# EAGLE library part 557563-1 (library matt con-amp)
AMP connector
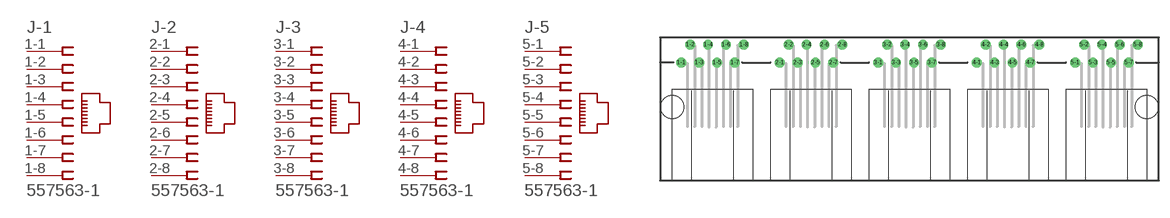
[diagram p62: symbol with the pads of 557563-1; footprint 557563-1]

Designator prefix J; gates -1=JACK8 -2=JACK8 -3=JACK8 -4=JACK8 -5=JACK8

## 557563-1  [557563-1]
1-1  -1:1  pas
1-2  -1:2  pas
1-3  -1:3  pas
1-4  -1:4  pas
1-5  -1:5  pas
1-6  -1:6  pas
1-7  -1:7  pas
1-8  -1:8  pas
2-1  -2:1  pas
2-2  -2:2  pas
2-3  -2:3  pas
2-4  -2:4  pas
2-5  -2:5  pas
2-6  -2:6  pas
2-7  -2:7  pas
2-8  -2:8  pas
3-1  -3:1  pas
3-2  -3:2  pas
3-3  -3:3  pas
3-4  -3:4  pas
3-5  -3:5  pas
3-6  -3:6  pas
3-7  -3:7  pas
3-8  -3:8  pas
4-1  -4:1  pas
4-2  -4:2  pas
4-3  -4:3  pas
4-4  -4:4  pas
4-5  -4:5  pas
4-6  -4:6  pas
4-7  -4:7  pas
4-8  -4:8  pas
5-1  -5:1  pas
5-2  -5:2  pas
5-3  -5:3  pas
5-4  -5:4  pas
5-5  -5:5  pas
5-6  -5:6  pas
5-7  -5:7  pas
5-8  -5:8  pas

## Footprint 557563-1 (pad centres in mm)
Modular Jack
drill 0.889 round: 1-1 -32.385,6.35; 1-2 -31.115,8.89; 1-3 -29.845,6.35; 1-4 -28.575,8.89; 1-5 -27.305,6.35; 1-6 -26.035,8.89; 1-7 -24.765,6.35; 1-8 -23.495,8.89; 2-1 -18.415,6.35; 2-2 -17.145,8.89; 2-3 -15.875,6.35; 2-4 -14.605,8.89; 2-5 -13.335,6.35; 2-6 -12.065,8.89; 2-7 -10.795,6.35; 2-8 -9.525,8.89; 3-1 -4.445,6.35; 3-2 -3.175,8.89; 3-3 -1.905,6.35; 3-4 -0.635,8.89; 3-5 0.635,6.35; 3-6 1.905,8.89; 3-7 3.175,6.35; 3-8 4.445,8.89; 4-1 9.525,6.35; 4-2 10.795,8.89; 4-3 12.065,6.35; 4-4 13.335,8.89; 4-5 14.605,6.35; 4-6 15.875,8.89; 4-7 17.145,6.35; 4-8 18.415,8.89; 5-1 23.495,6.35; 5-2 24.765,8.89; 5-3 26.035,6.35; 5-4 27.305,8.89; 5-5 28.575,6.35; 5-6 29.845,8.89; 5-7 31.115,6.35; 5-8 32.385,8.89
hole 3.251 at -33.655,0
hole 3.251 at 33.655,0